# Altium integrated library TI Analog Current Mirror.IntLib: 9 symbols
Pins are listed as number, name and electrical type; pins without a type are passive.

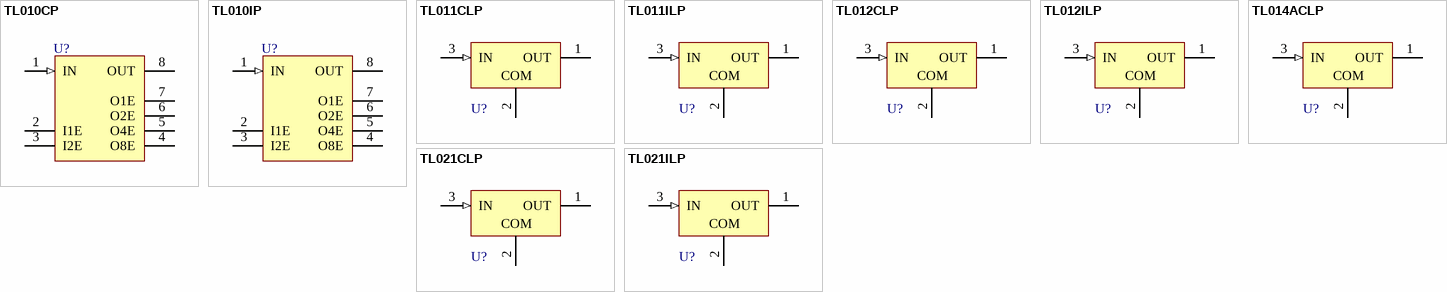
[diagram p0: symbols TL010CP to TL021ILP]

## TL010CP
designator U?
Adjustable-Ratio Current Mirror; Published: 15-Apr-2002; LatestRevisionDate: 04-Mar-2005; LatestRevisionNote: Stylized 3D Model Added.; DatasheetVersion: Apr-1988; PackageVersion: Jun-1999; PackageReference: P008; Publisher: Altium Limited; PackageDescription: DIP; 8 Leads; Row Spacing 7.62 mm; Pitch 2.54 mm; Code_JEDEC: MO-001-AN; ComponentLink1Description: Manufacturer Link; ComponentLink1URL: http://www.ti.com/
footprint P008 (DIP; 8 Leads; Row Spacing 7.62 mm; Pitch 2.54 mm)
3D model P008 (DIP; 8 Leads; Row Spacing 7.62 mm; Pitch 2.54 mm)
pins: 1 IN (in), 2 I1E, 3 I2E, 4 O8E, 5 O4E, 6 O2E, 7 O1E, 8 OUT (oc)

## TL010IP
designator U?
Adjustable-Ratio Current Mirror; Published: 15-Apr-2002; LatestRevisionDate: 04-Mar-2005; LatestRevisionNote: Stylized 3D Model Added.; DatasheetVersion: Apr-1988; PackageVersion: Jun-1999; PackageReference: P008; Publisher: Altium Limited; PackageDescription: DIP; 8 Leads; Row Spacing 7.62 mm; Pitch 2.54 mm; Code_JEDEC: MO-001-AN; ComponentLink1Description: Manufacturer Link; ComponentLink1URL: http://www.ti.com/
footprint P008 (DIP; 8 Leads; Row Spacing 7.62 mm; Pitch 2.54 mm)
3D model P008 (DIP; 8 Leads; Row Spacing 7.62 mm; Pitch 2.54 mm)
pins: 1 IN (in), 2 I1E, 3 I2E, 4 O8E, 5 O4E, 6 O2E, 7 O1E, 8 OUT (oc)

## TL011CLP
designator U?
Fixed-Ratio N-P-N Current Mirror; Published: 15-Apr-2002; DatasheetVersion: Oct-1988; PackageVersion: Nov-2001; PackageReference: LP03; Publisher: Altium Limited; PackageDescription: TO, Flat Index; 3 In-Line, Axial Leads; Body Dia. 4.8mm; Leads 0.56 x 0.41 mm (max); Code_JEDEC: TO-226-AA; ComponentLink1Description: Manufacturer Link; ComponentLink1URL: http://www.ti.com/
footprint LP03 (TO, Flat Index; 3 In-Line, Axial Leads; Body Dia. 4.8mm; Leads 0.56 x 0.41 mm (max))
pins: 1 OUT (oc), 2 COM (power), 3 IN (in)

## TL011ILP
designator U?
Fixed-Ratio N-P-N Current Mirror; Published: 15-Apr-2002; DatasheetVersion: Oct-1988; PackageVersion: Nov-2001; PackageReference: LP03; Publisher: Altium Limited; PackageDescription: TO, Flat Index; 3 In-Line, Axial Leads; Body Dia. 4.8mm; Leads 0.56 x 0.41 mm (max); Code_JEDEC: TO-226-AA; ComponentLink1Description: Manufacturer Link; ComponentLink1URL: http://www.ti.com/
footprint LP03 (TO, Flat Index; 3 In-Line, Axial Leads; Body Dia. 4.8mm; Leads 0.56 x 0.41 mm (max))
pins: 1 OUT (oc), 2 COM (power), 3 IN (in)

## TL012CLP
designator U?
Fixed-Ratio N-P-N Current Mirror; Published: 15-Apr-2002; DatasheetVersion: Oct-1988; PackageVersion: Nov-2001; PackageReference: LP03; Publisher: Altium Limited; PackageDescription: TO, Flat Index; 3 In-Line, Axial Leads; Body Dia. 4.8mm; Leads 0.56 x 0.41 mm (max); Code_JEDEC: TO-226-AA; ComponentLink1Description: Manufacturer Link; ComponentLink1URL: http://www.ti.com/
footprint LP03 (TO, Flat Index; 3 In-Line, Axial Leads; Body Dia. 4.8mm; Leads 0.56 x 0.41 mm (max))
pins: 1 OUT (oc), 2 COM (power), 3 IN (in)

## TL012ILP
designator U?
Fixed-Ratio N-P-N Current Mirror; Published: 15-Apr-2002; DatasheetVersion: Oct-1988; PackageVersion: Nov-2001; PackageReference: LP03; Publisher: Altium Limited; PackageDescription: TO, Flat Index; 3 In-Line, Axial Leads; Body Dia. 4.8mm; Leads 0.56 x 0.41 mm (max); Code_JEDEC: TO-226-AA; ComponentLink1Description: Manufacturer Link; ComponentLink1URL: http://www.ti.com/
footprint LP03 (TO, Flat Index; 3 In-Line, Axial Leads; Body Dia. 4.8mm; Leads 0.56 x 0.41 mm (max))
pins: 1 OUT (oc), 2 COM (power), 3 IN (in)

## TL014ACLP
designator U?
Fixed-Ratio N-P-N Current Mirror; Published: 15-Apr-2002; DatasheetVersion: Oct-1988; PackageVersion: Nov-2001; PackageReference: LP03; Publisher: Altium Limited; PackageDescription: TO, Flat Index; 3 In-Line, Axial Leads; Body Dia. 4.8mm; Leads 0.56 x 0.41 mm (max); Code_JEDEC: TO-226-AA; ComponentLink1Description: Manufacturer Link; ComponentLink1URL: http://www.ti.com/
footprint LP03 (TO, Flat Index; 3 In-Line, Axial Leads; Body Dia. 4.8mm; Leads 0.56 x 0.41 mm (max))
pins: 1 OUT (oc), 2 COM (power), 3 IN (in)

## TL021CLP
designator U?
Fixed-Ratio N-P-N Current Mirror; Published: 15-Apr-2002; DatasheetVersion: Oct-1988; PackageVersion: Nov-2001; PackageReference: LP03; Publisher: Altium Limited; PackageDescription: TO, Flat Index; 3 In-Line, Axial Leads; Body Dia. 4.8mm; Leads 0.56 x 0.41 mm (max); Code_JEDEC: TO-226-AA; ComponentLink1Description: Manufacturer Link; ComponentLink1URL: http://www.ti.com/
footprint LP03 (TO, Flat Index; 3 In-Line, Axial Leads; Body Dia. 4.8mm; Leads 0.56 x 0.41 mm (max))
pins: 1 OUT (oc), 2 COM (power), 3 IN (in)

## TL021ILP
designator U?
Fixed-Ratio N-P-N Current Mirror; Published: 15-Apr-2002; DatasheetVersion: Oct-1988; PackageVersion: Nov-2001; PackageReference: LP03; Publisher: Altium Limited; PackageDescription: TO, Flat Index; 3 In-Line, Axial Leads; Body Dia. 4.8mm; Leads 0.56 x 0.41 mm (max); Code_JEDEC: TO-226-AA; ComponentLink1Description: Manufacturer Link; ComponentLink1URL: http://www.ti.com/
footprint LP03 (TO, Flat Index; 3 In-Line, Axial Leads; Body Dia. 4.8mm; Leads 0.56 x 0.41 mm (max))
pins: 1 OUT (oc), 2 COM (power), 3 IN (in)